# EAGLE library part HELTEC-LORA_V3 (library Heltec_WiFi-LoRa-32)
Heltec WiFi LoRa 32 V3 Same footprint for V2 and V3, pinning is different Specification Details Master Chip ESP32-S3FN8 (Xtensa®32-bit lx7 dual core processor) LoRa Node Chip SX1262 USB to Serial Chip CP2102 Frequency 470~510MHz, 863~928MHz Max. TX Power 21±1dBm Max. Receiving Sensitivity -134dBm@SF12 BW=125KHz Wi-Fi 802.11 b/g/n, up to 150Mbps Bluetooth Bluetooth 5 (LE) Hardware Resource 7*ADC1 + 2*ADC2; 7*Touch; 3*UART; 2*I2C; 2*SPI; etc. Memory 384KB ROM; 512KB SRAM; 16KB RTC SRAM; 8MB SiP Flash Interface Type-C USB; 2*1.25 lithium battery interface; LoRa ANT (IPEX1.0); 2*18*2.54 Header Pin Battery 3.7V lithium battery power supply and charging Operating Temperature -20 ~ 70 ℃ Dimensions 50.2 * 25.5 * 10.2 mm Made by TrueLoveFour0 repo on GitHub <https://github.com/TrueLoveFor0/Heltec-Lora32-V2-Eagle-lib> Based on a lib from cartoonpiboon@gmail.com <url>
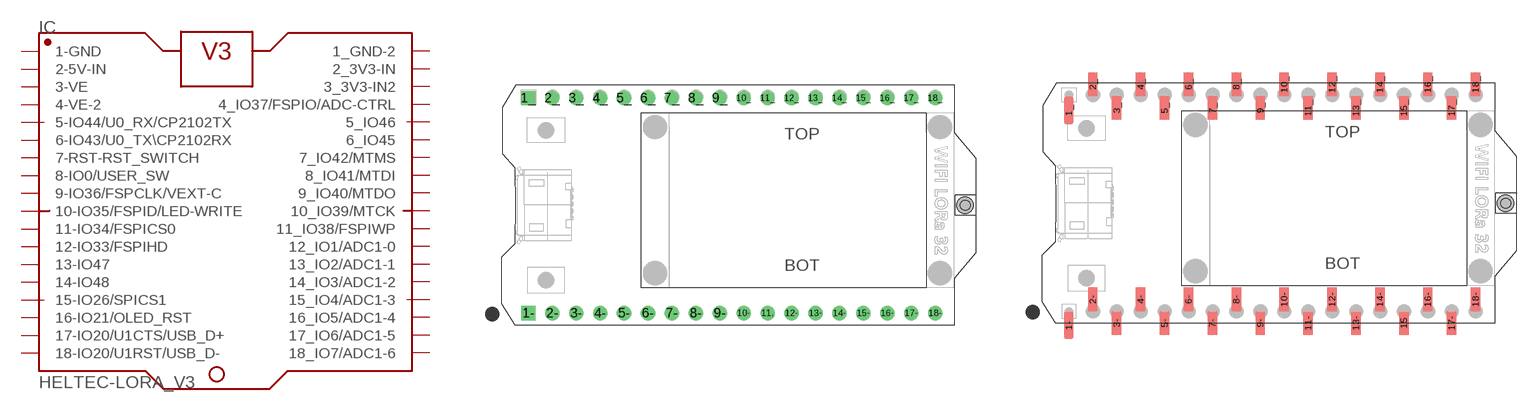
[diagram p1: symbol with the pads of HELTEC_LORA_32; footprints HELTEC_LORA_32, HELTEC_LORA_32-SMD]

Designator prefix IC

## HELTEC-LORA_V3TH  [HELTEC_LORA_32]
1-  1-GND  pwr
1_  1_GND-2  pwr
2-  2-5V-IN  pwr
2_  2_3V3-IN  pwr
3-  3-VE  sup
3_  3_3V3-IN2  pwr
4-  4-VE-2  sup
4_  4_IO37/FSPIO/ADC-CTRL  in
5-  5-IO44/U0_RX/CP2102TX
5_  5_IO46  in
6-  6-IO43/U0_TX\CP2102RX
6_  6_IO45  in
7-  7-RST-RST_SWITCH
7_  7_IO42/MTMS  in
8-  8-IO0/USER_SW
8_  8_IO41/MTDI  in
9-  9-IO36/FSPCLK/VEXT-C
9_  9_IO40/MTDO  in
10-  10-IO35/FSPID/LED-WRITE
10_  10_IO39/MTCK
11.  11-IO34/FSPICS0
11_  11_IO38/FSPIWP
12-  12-IO33/FSPIHD
12_  12_IO1/ADC1-0
13-  13-IO47
13_  13_IO2/ADC1-1
14-  14-IO48
14_  14_IO3/ADC1-2
15-  15-IO26/SPICS1
15_  15_IO4/ADC1-3
16-  16-IO21/OLED_RST
16_  16_IO5/ADC1-4
17-  17-IO20/U1CTS/USB_D+
17_  17_IO6/ADC1-5
18-  18-IO20/U1RST/USB_D-
18_  18_IO7/ADC1-6

## HELTEC-LORA_V3SMD  [HELTEC_LORA_32-SMD]
1-  1-GND  pwr
1_  1_GND-2  pwr
2-  2-5V-IN  pwr
2_  2_3V3-IN  pwr
3-  3-VE  sup
3_  3_3V3-IN2  pwr
4-  4-VE-2  sup
4_  4_IO37/FSPIO/ADC-CTRL  in
5-  5-IO44/U0_RX/CP2102TX
5_  5_IO46  in
6-  6-IO43/U0_TX\CP2102RX
6_  6_IO45  in
7-  7-RST-RST_SWITCH
7_  7_IO42/MTMS  in
8-  8-IO0/USER_SW
8_  8_IO41/MTDI  in
9-  9-IO36/FSPCLK/VEXT-C
9_  9_IO40/MTDO  in
10-  10-IO35/FSPID/LED-WRITE
10_  10_IO39/MTCK
11-  11-IO34/FSPICS0
11_  11_IO38/FSPIWP
12-  12-IO33/FSPIHD
12_  12_IO1/ADC1-0
13-  13-IO47
13_  13_IO2/ADC1-1
14-  14-IO48
14_  14_IO3/ADC1-2
15  15-IO26/SPICS1
15_  15_IO4/ADC1-3
16-  16-IO21/OLED_RST
16_  16_IO5/ADC1-4
17-  17-IO20/U1CTS/USB_D+
17_  17_IO6/ADC1-5
18-  18-IO20/U1RST/USB_D-
18_  18_IO7/ADC1-6

## HELTEC-LORA_V3  [HELTEC_LORA_32-TH-SMD]
1-  1-GND  pwr
1-1  1-GND  pwr
1_  1_GND-2  pwr
1_1  1_GND-2  pwr
2-  2-5V-IN  pwr
2-1  2-5V-IN  pwr
2_  2_3V3-IN  pwr
2_1  2_3V3-IN  pwr
3-  3-VE  sup
3-1  3-VE  sup
3_  3_3V3-IN2  pwr
3_1  3_3V3-IN2  pwr
4-  4-VE-2  sup
4-1  4-VE-2  sup
4_  4_IO37/FSPIO/ADC-CTRL  in
4_1  4_IO37/FSPIO/ADC-CTRL  in
5-  5-IO44/U0_RX/CP2102TX
5-1  5-IO44/U0_RX/CP2102TX
5_  5_IO46  in
5_1  5_IO46  in
6-  6-IO43/U0_TX\CP2102RX
6-1  6-IO43/U0_TX\CP2102RX
6_  6_IO45  in
6_1  6_IO45  in
7-  7-RST-RST_SWITCH
7-1  7-RST-RST_SWITCH
7_  7_IO42/MTMS  in
7_1  7_IO42/MTMS  in
8-  8-IO0/USER_SW
8-1  8-IO0/USER_SW
8_  8_IO41/MTDI  in
8_1  8_IO41/MTDI  in
9-  9-IO36/FSPCLK/VEXT-C
9-1  9-IO36/FSPCLK/VEXT-C
9_  9_IO40/MTDO  in
9_1  9_IO40/MTDO  in
10-  10-IO35/FSPID/LED-WRITE
10-1  10-IO35/FSPID/LED-WRITE
10_  10_IO39/MTCK
10_1  10_IO39/MTCK
11-  11-IO34/FSPICS0
11.  11-IO34/FSPICS0
11_  11_IO38/FSPIWP
11_1  11_IO38/FSPIWP
12-  12-IO33/FSPIHD
12-1  12-IO33/FSPIHD
12_  12_IO1/ADC1-0
12_1  12_IO1/ADC1-0
13-  13-IO47
13-1  13-IO47
13_  13_IO2/ADC1-1
13_1  13_IO2/ADC1-1
14-  14-IO48
14-1  14-IO48
14_  14_IO3/ADC1-2
14_1  14_IO3/ADC1-2
15  15-IO26/SPICS1
15-  15-IO26/SPICS1
15_  15_IO4/ADC1-3
15_1  15_IO4/ADC1-3
16-  16-IO21/OLED_RST
16-1  16-IO21/OLED_RST
16_  16_IO5/ADC1-4
16_1  16_IO5/ADC1-4
17-  17-IO20/U1CTS/USB_D+
17-1  17-IO20/U1CTS/USB_D+
17_  17_IO6/ADC1-5
17_1  17_IO6/ADC1-5
18-  18-IO20/U1RST/USB_D-
18-1  18-IO20/U1RST/USB_D-
18_  18_IO7/ADC1-6
18_1  18_IO7/ADC1-6

## Footprint HELTEC_LORA_32 (pad centres in mm)
drill 0.9 pad 1.5 square: 1- 0,0; 1_ 0,22.86
drill 0.9 pad 1.5: 2- 2.54,0; 2_ 2.54,22.86; 3- 5.08,0; 3_ 5.08,22.86; 4- 7.62,0; 4_ 7.62,22.86; 5- 10.16,0; 5_ 10.16,22.86; 6- 12.7,0; 6_ 12.7,22.86; 7- 15.24,0; 7_ 15.24,22.86; 8- 17.78,0; 8_ 17.78,22.86; 9- 20.32,0; 9_ 20.32,22.86; 10- 22.86,0; 10_ 22.86,22.86; 11. 25.4,0; 11_ 25.4,22.86; 12- 27.94,0; 12_ 27.94,22.86; 13- 30.48,0; 13_ 30.48,22.86; 14- 33.02,0; 14_ 33.02,22.86; 15- 35.56,0; 15_ 35.56,22.86; 16- 38.1,0; 16_ 38.1,22.86; 17- 40.64,0; 17_ 40.64,22.86; 18- 43.18,0; 18_ 43.18,22.86

## Footprint HELTEC_LORA_32-SMD (pad centres in mm)
smd 1 x 3: 1- 0,-1.5; 1_ 0,21.36
smd 1 x 2.5: 2- 2.54,1.25; 2_ 2.54,24.11; 3- 5.08,-1.25; 3_ 5.08,21.61; 4- 7.62,1.25; 4_ 7.62,24.11; 5- 10.16,-1.25; 5_ 10.16,21.61; 6- 12.7,1.25; 6_ 12.7,24.11; 7- 15.24,-1.25; 7_ 15.24,21.61; 8- 17.78,1.25; 8_ 17.78,24.11; 9- 20.32,-1.25; 9_ 20.32,21.61; 10- 22.86,1.25; 10_ 22.86,24.11; 11- 25.4,-1.25; 11_ 25.4,21.61; 12- 27.94,1.25; 12_ 27.94,24.11; 13- 30.48,-1.25; 13_ 30.48,21.61; 14- 33.02,1.25; 14_ 33.02,24.11; 15 35.56,-1.25; 15_ 35.56,21.61; 16- 38.1,1.25; 16_ 38.1,24.11; 17- 40.64,-1.25; 17_ 40.64,21.61; 18- 43.18,1.25; 18_ 43.18,24.11

## Footprint HELTEC_LORA_32-TH-SMD (pad centres in mm)
drill 0.9 pad 1.5 square: 1- 0,0; 1_ 0,22.86
smd 1.016 x 2.54: 1-1 0,-1.27; 1_1 0,21.59; 2-1 2.54,1.27; 2_1 2.54,24.13; 3-1 5.08,-1.27; 3_1 5.08,21.59; 4-1 7.62,1.27; 4_1 7.62,24.13; 5-1 10.16,-1.27; 5_1 10.16,21.59; 6-1 12.7,1.27; 6_1 12.7,24.13; 7-1 15.24,-1.27; 7_1 15.24,21.59; 8-1 17.78,1.27; 8_1 17.78,24.13; 9-1 20.32,-1.27; 9_1 20.32,21.59; 10-1 22.86,1.27; 10_1 22.86,24.13; 11- 25.4,-1.27; 11_1 25.4,21.59; 12-1 27.94,1.27; 12_1 27.94,24.13; 13-1 30.48,-1.27; 13_1 30.48,21.59; 14-1 33.02,1.27; 14_1 33.02,24.13; 15 35.56,-1.27; 15_1 35.56,21.59; 16-1 38.1,1.27; 16_1 38.1,24.13; 17-1 40.64,-1.27; 17_1 40.64,21.59; 18-1 43.18,1.27; 18_1 43.18,24.13
drill 0.9 pad 1.5: 2- 2.54,0; 2_ 2.54,22.86; 3- 5.08,0; 3_ 5.08,22.86; 4- 7.62,0; 4_ 7.62,22.86; 5- 10.16,0; 5_ 10.16,22.86; 6- 12.7,0; 6_ 12.7,22.86; 7- 15.24,0; 7_ 15.24,22.86; 8- 17.78,0; 8_ 17.78,22.86; 9- 20.32,0; 9_ 20.32,22.86; 10- 22.86,0; 10_ 22.86,22.86; 11. 25.4,0; 11_ 25.4,22.86; 12- 27.94,0; 12_ 27.94,22.86; 13- 30.48,0; 13_ 30.48,22.86; 14- 33.02,0; 14_ 33.02,22.86; 15- 35.56,0; 15_ 35.56,22.86; 16- 38.1,0; 16_ 38.1,22.86; 17- 40.64,0; 17_ 40.64,22.86; 18- 43.18,0; 18_ 43.18,22.86